# EAGLE library part FT232R (library GeekAmmo)
FT232R USB UART IC The FT232R is a USB to serial UART interface with advanced features. http://www.ftdichip.com/Support/Documents/DataSheets/ICs/DS_FT232R.pdf
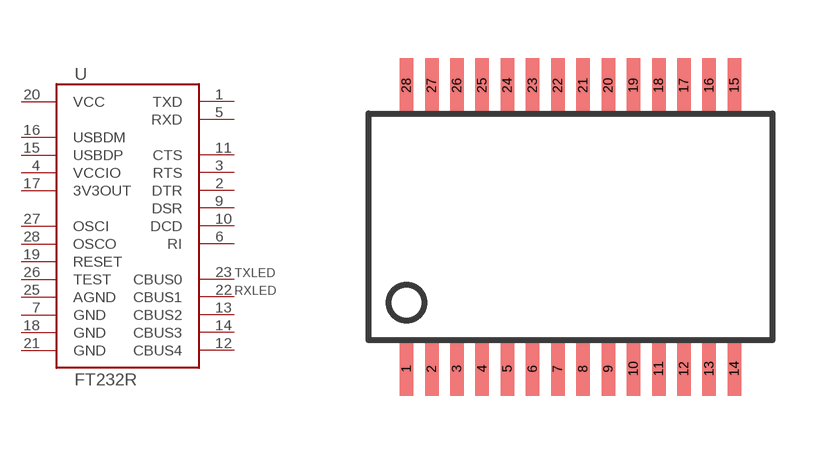
[diagram p6: symbol with the pads of SSOP-28; footprint SSOP-28]

Designator prefix -

## FT232R  [SSOP-28]
1  TXD  out
2  DTR  out
3  RTS  out
4  VCCIO  pwr
5  RXD  in
6  RI  in
7  GND  pwr
9  DSR  in
10  DCD  in
11  CTS  in
12  CBUS4  in
13  CBUS2  in
14  CBUS3  in
15  USBDP
16  USBDM
17  3V3OUT  out
18  GND  pwr
19  RESET  in
20  VCC  pwr
21  GND  pwr
22  CBUS1  in
23  CBUS0  in
25  AGND  pwr
26  TEST  in
27  OSCI  in
28  OSCO  out

## Footprint SSOP-28 (pad centres in mm)
SSOP 28
smd 0.348 x 1.397: 1 -4.225,-3.656; 2 -3.575,-3.656; 3 -2.925,-3.656; 4 -2.275,-3.656; 5 -1.625,-3.656; 6 -0.975,-3.656; 7 -0.325,-3.656; 8 0.325,-3.656; 9 0.975,-3.656; 10 1.625,-3.656; 11 2.275,-3.656; 12 2.925,-3.656; 13 3.575,-3.656; 14 4.225,-3.656; 15 4.225,3.656; 16 3.575,3.656; 17 2.925,3.656; 18 2.275,3.656; 19 1.625,3.656; 20 0.975,3.656; 21 0.325,3.656; 22 -0.325,3.656; 23 -0.975,3.656; 24 -1.625,3.656; 25 -2.275,3.656; 26 -2.925,3.656; 27 -3.575,3.656; 28 -4.225,3.656